# Altium schematic symbol library EL-sense_Temperature_Sensor.SchLib: 2 symbols
Pins are listed as number, name and electrical type; pins without a type are passive.

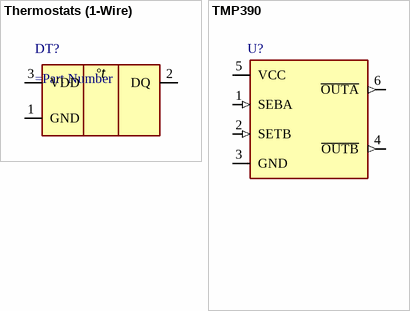
[diagram p0: symbols Thermostats (1-Wire) to TMP390]

## Thermostats (1-Wire)
designator DT?
pins: 1 GND "SDA/SDI/SDO", 2 DQ "SDO/SA0", 3 VDD "SCL/SPC"
text: °t

## TMP390
designator U?
pins: 1 SEBA (in) "Channel A temperature set point", 2 SETB (in) "Channel B temperature and Hysteresis set point", 3 GND (power) "Device ground", 4 ~{OUTB} (out) "Channel B logic open-drain active low output", 5 VCC (power) "Power supply voltage (1.62 V – 5.5 V)", 6 ~{OUTA} (out) "Channel A logic open-drain active low output"